# EAGLE library part 82C59A-2 (library micro-siemens)
MICROPROCESSOR/PERIPHERAL DEVICE
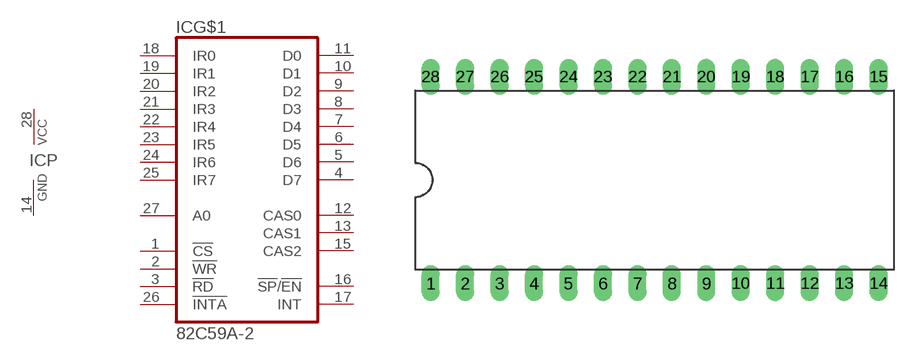
[diagram p41: symbol with the pads of DIL28-6; footprint DIL28-6]

Designator prefix IC; gates G$1=82C59A-2 P=VCCGND

## 82C59A-2 (MPN: CP82C59A-12Z; OC_FARNELL: 1561995; OC_NEWARK: 05M7148)  [DIL28-6]
1  G$1:!CS  in
2  G$1:!WR  in
3  G$1:!RD  in
4  G$1:D7
5  G$1:D6
6  G$1:D5
7  G$1:D4
8  G$1:D3
9  G$1:D2
10  G$1:D1
11  G$1:D0
12  G$1:CAS0
13  G$1:CAS1
14  P:GND  pwr
15  G$1:CAS2
16  G$1:!SP!/!EN
17  G$1:INT  out
18  G$1:IR0  in
19  G$1:IR1  in
20  G$1:IR2  in
21  G$1:IR3  in
22  G$1:IR4  in
23  G$1:IR5  in
24  G$1:IR6  in
25  G$1:IR7  in
26  G$1:!INTA  in
27  G$1:A0  in
28  P:VCC  pwr

## Footprint DIL28-6 (pad centres in mm)
Dual In Line Package 0.6 inch
drill 0.813 long: 1 -16.51,-7.62; 2 -13.97,-7.62; 3 -11.43,-7.62; 4 -8.89,-7.62; 5 -6.35,-7.62; 6 -3.81,-7.62; 7 -1.27,-7.62; 8 1.27,-7.62; 9 3.81,-7.62; 10 6.35,-7.62; 11 8.89,-7.62; 12 11.43,-7.62; 13 13.97,-7.62; 14 16.51,-7.62; 15 16.51,7.62; 16 13.97,7.62; 17 11.43,7.62; 18 8.89,7.62; 19 6.35,7.62; 20 3.81,7.62; 21 1.27,7.62; 22 -1.27,7.62; 23 -3.81,7.62; 24 -6.35,7.62; 25 -8.89,7.62; 26 -11.43,7.62; 27 -13.97,7.62; 28 -16.51,7.62